# Altium schematic symbol library 2450BM15A0002E.SchLib: 1 symbol
Pins are listed as number, name and electrical type; pins without a type are passive.

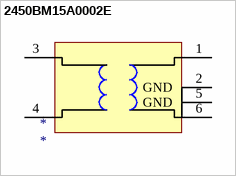
[diagram p0: symbol 2450BM15A0002E]

## 2450BM15A0002E
designator *
footprint 2450BM15A0002E
pins: 1, 2 GND (power), 3, 4, 5 GND (power), 6 (power)